# EAGLE library part 93AA46BT (library custom)
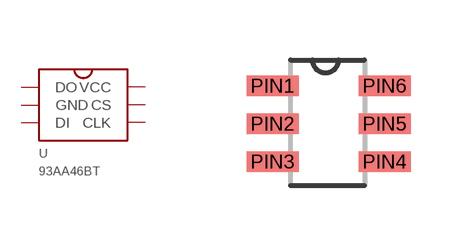
[diagram p10: symbol with the pads of SOT23-6; footprint SOT23-6]

Designator prefix -

## 93AA46BT  [SOT23-6]
PIN1  DO
PIN2  GND
PIN3  DI
PIN4  CLK
PIN5  CS
PIN6  VCC

## Footprint SOT23-6 (pad centres in mm)
smd 1.3 x 0.508: PIN1 -0.2,0; PIN2 -0.2,-0.95; PIN3 -0.2,-1.9; PIN4 2.6,-1.9; PIN5 2.6,-0.95; PIN6 2.6,0